# EAGLE library part MISO_MOSI (library atmel)
MISO/MOSI Programmer Interface refere to Atmel/Microchip description of pin header style <http://microchipdeveloper.com/atmelice:connecting-atmel-ice-to-a-debugwire-target>
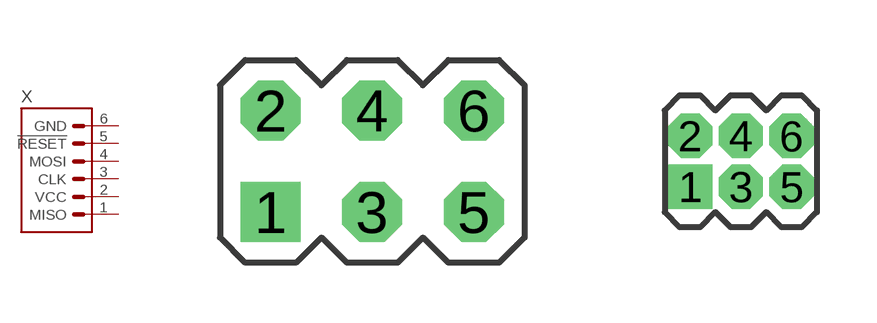
[diagram p0: symbol with the pads of PINHEADER_2R03_100MIL; footprints PINHEADER_2R03_100MIL, PINHEADER_2R03_50MIL]

Designator prefix X

## MISO_MOSITHT_100MIL (OC_FARNELL: unknown; OC_NEWARK: unknown)  [PINHEADER_2R03_100MIL]
1  MISO  pas
2  VCC  sup
3  CLK  pas
4  MOSI  pas
5  !RESET  pas
6  GND  sup

## MISO_MOSITHT_50MIL  [PINHEADER_2R03_50MIL]
Pads as for PINHEADER_2R03_100MIL

## MISO_MOSISMD_50MIL  [PADS_2R03_50MIL]
Pads as for PINHEADER_2R03_100MIL

## MISO_MOSIPOGO-PIN_50MIL  [POGO-PIN_2R03_50MIL]
Pads as for PINHEADER_2R03_100MIL

## MISO_MOSIIDC-06V  [IDC-06V]
Pads as for PINHEADER_2R03_100MIL

## MISO_MOSIIDC-06H  [IDC-06H]
Pads as for PINHEADER_2R03_100MIL

## MISO_MOSIIDC-10H  [IDC-10H]
1  MOSI  pas
2  VCC  sup
4  GND  sup
5  !RESET  pas
6  GND  sup
7  CLK  pas
8  GND  sup
9  MISO  pas
10  GND  sup

## MISO_MOSIIDC-10V  [IDC-10V]
Pads as for IDC-10H

## Footprint PINHEADER_2R03_100MIL (pad centres in mm)
PIN HEADER, pitch 100 mil
drill 0.85 pad 1.5 square: 1 -2.54,-1.27
drill 0.85 pad 1.5 octagon: 2 -2.54,1.27; 3 0,-1.27; 4 0,1.27; 5 2.54,-1.27; 6 2.54,1.27

## Footprint PINHEADER_2R03_50MIL (pad centres in mm)
PIN HEADER, pitch 50 mil
drill 0.6 pad 1.1 square: 1 -1.27,-0.635
drill 0.6 pad 1.1 octagon: 2 -1.27,0.635; 3 0,-0.635; 4 0,0.635; 5 1.27,-0.635; 6 1.27,0.635

## Footprint PADS_2R03_50MIL (pad centres in mm)
Programmer Interface, "SMD" test pad style, pad diameter 0.9 mm, pitch 50mil without cream on copper area, with gold finish similiar to Segger J-Link 6-Pin Needle Adapter <www.segger.com/products/debug-probes/j-link/accessories/adapters/6-pin-needle-adapter>
smd 0.9 x 0.9: 1 -1.27,-0.635; 2 -1.27,0.635; 3 0,-0.635; 4 0,0.635; 5 1.27,-0.635; 6 1.27,0.635
hole 0.6 at -2.54,0
hole 0.6 at 2.54,1.016
hole 0.6 at 2.54,-1.016

## Footprint POGO-PIN_2R03_50MIL (pad centres in mm)
Programmer Interface, spring loaded connector style, pitch 50mil socket shaft diameter for pad 1 ... 6: 0.65 mm (FIXTEST series 705: socket S 705.10 for spring loaded contact 705.05.04) socket shaft diameter for pad M1 ... M3: 0.85 mm (FIXTEST series 707: socket S 707.00-N24 for spring loaded contact 707.14.10K20) NOTE: spring loaded probe heads have to mount on BOTTOM side Refer to: Tag-Connect TC2030-IDC-NL 6-Pin No-Legs Adaptor <http://www.tag-connect.com/Materials/TC2030-IDC-NL.pdf> See also: SeggerJ-Link 6-Pin Needle Adaptor <https://www.segger.com/products/debug-probes/j-link/accessories/adapters/6-pin-needle-adapter/> Microchip Adaptor <http://www.microchip.com/developmenttools/ProductDetails/PartNo/TC2030-MCP-NL>
drill 0.65 pad 1.1 octagon: 1 -1.27,-0.635
drill 0.65 pad 1.1: 2 -1.27,0.635; 3 0,-0.635; 4 0,0.635; 5 1.27,-0.635; 6 1.27,0.635
drill 0.85 pad 1.2: M1 -2.54,0; M2 2.54,1.016; M3 2.54,-1.016

## Footprint IDC-06V (pad centres in mm)
IEC 60603-13 IDC male header, low-profile type, pitch 100mil, vertical (top entry type, straight solder pins)
drill 0.9 pad 1.5 square: 1 -2.54,-1.27
drill 0.9 pad 1.5: 2 -2.54,1.27; 3 0,-1.27; 4 0,1.27; 5 2.54,-1.27; 6 2.54,1.27

## Footprint IDC-06H (pad centres in mm)
IEC 60603-13 IDC male header, low-profile type, pitch 100mil, horizontal (side entry type, angled solder pins)
drill 0.9 pad 1.5 square: 1 -2.54,-1.27
drill 0.9 pad 1.5: 2 -2.54,1.27; 3 0,-1.27; 4 0,1.27; 5 2.54,-1.27; 6 2.54,1.27

## Footprint IDC-10H (pad centres in mm)
IEC 60603-13 IDC male header, low-profile type, pitch 100mil, horizontal (side entry type, angled solder pins)
drill 0.9 pad 1.5 square: 1 -5.08,-1.27
drill 0.9 pad 1.5: 2 -5.08,1.27; 3 -2.54,-1.27; 4 -2.54,1.27; 5 0,-1.27; 6 0,1.27; 7 2.54,-1.27; 8 2.54,1.27; 9 5.08,-1.27; 10 5.08,1.27

## Footprint IDC-10V (pad centres in mm)
IEC 60603-13 IDC male header, low-profile type, pitch 100mil, vertical (top entry type, straight solder pins)
drill 0.9 pad 1.5 square: 1 -5.08,-1.27
drill 0.9 pad 1.5: 2 -5.08,1.27; 3 -2.54,-1.27; 4 -2.54,1.27; 5 0,-1.27; 6 0,1.27; 7 2.54,-1.27; 8 2.54,1.27; 9 5.08,-1.27; 10 5.08,1.27